# Altium schematic symbol library 623 3xx 235 521.SchLib: 3 symbols
Pins are listed as number, name and electrical type; pins without a type are passive.

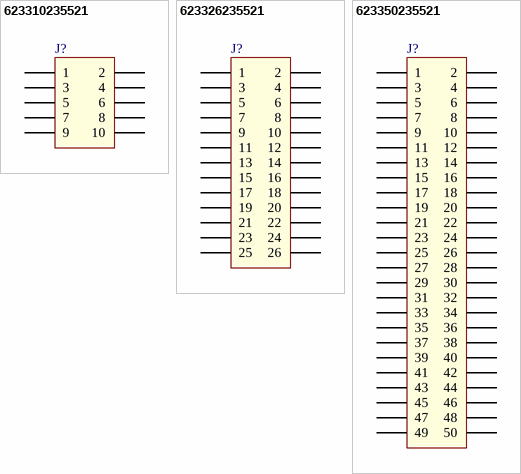
[diagram p0: symbols 623310235521 to 623350235521]

## 623310235521
designator J?
WR-PHD 1.27 mm SMT Dual Pin Header, H=1.80mm, 10p; Part Number: 623310235521; Pitch: 1.27 mm; Pin Number: 10; ComponentLink1Description: Manufacturer; ComponentLink1URL: http://www.we-online.de; ComponentLink2Description: Datasheet; ComponentLink2URL: http://katalog.we-online.de/em/datasheet/6233xx235521.pdf; Published Date: April 2017; Publisher: Wurth Elektronik
footprint 623310235521 (1.27 mm SMT Dual Pin Header, H=1.80mm, 10p)
pins: 1, 2, 3, 4, 5, 6, 7, 8, 9, 10

## 623326235521
designator J?
WR-PHD 1.27 mm SMT Dual Pin Header, H=1.80mm, 26p; Part Number: 623326235521; Pitch: 1.27 mm; Pin Number: 26; ComponentLink1Description: Manufacturer; ComponentLink1URL: http://www.we-online.de; ComponentLink2Description: Datasheet; ComponentLink2URL: http://katalog.we-online.de/em/datasheet/6233xx235521.pdf; Published Date: April 2017; Publisher: Wurth Elektronik
footprint 623326235521 (1.27 mm SMT Dual Pin Header, H=1.80mm, 26p)
pins: 1, 2, 3, 4, 5, 6, 7, 8, 9, 10, 11, 12, 13, 14, 15, 16, 17, 18, 19, 20, 21, 22, 23, 24, 25, 26

## 623350235521
designator J?
WR-PHD 1.27 mm SMT Dual Pin Header, H=1.80mm, 50p; Part Number: 623350235521; Pitch: 1.27 mm; Pin Number: 50; ComponentLink1Description: Manufacturer; ComponentLink1URL: http://www.we-online.de; ComponentLink2Description: Datasheet; ComponentLink2URL: http://katalog.we-online.de/em/datasheet/6233xx235521.pdf; Published Date: April 2017; Publisher: Wurth Elektronik
footprint 623350235521 (1.27 mm SMT Dual Pin Header, H=1.80mm, 50p)
pins: 1, 2, 3, 4, 5, 6, 7, 8, 9, 10, 11, 12, 13, 14, 15, 16, 17, 18, 19, 20, 21, 22, 23, 24, 25, 26, 27, 28, 29, 30, 31, 32, 33, 34, 35, 36, 37, 38, 39, 40, 41, 42, 43, 44, 45, 46, 47, 48, 49, 50